# EAGLE library part MX150L-12-PLUG (library Molex)
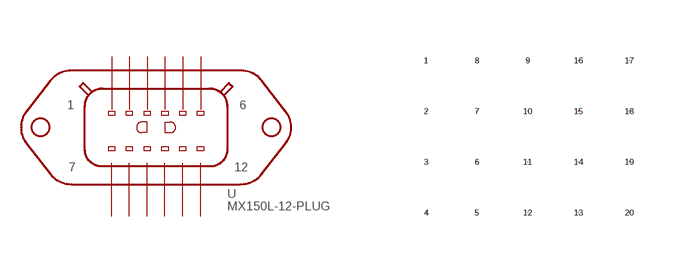
[diagram p5: symbol with the pads of NO_PACKAGE; footprint NO_PACKAGE]

Designator prefix -

## MX150L-12-PLUG  [NO_PACKAGE]
1  1
2  2
3  3
4  4
5  5
6  6
7  7
8  8
9  9
10  10
11  11
12  12

## Footprint NO_PACKAGE (pad centres in mm)
smd 0.025 x 0.025: 1 -1.27,1.27; 2 -1.27,0; 3 -1.27,-1.27; 4 -1.27,-2.54; 5 0,-2.54; 6 0,-1.27; 7 0,0; 8 0,1.27; 9 1.27,1.27; 10 1.27,0; 11 1.27,-1.27; 12 1.27,-2.54; 13 2.54,-2.54; 14 2.54,-1.27; 15 2.54,0; 16 2.54,1.27; 17 3.81,1.27; 18 3.81,0; 19 3.81,-1.27; 20 3.81,-2.54